# Altium footprint library PHOENIX_1725669.PcbLib: 1 footprints
Each footprint in its own frame and in the unit in brackets; x right, y up, seen from the top. Pads: shape width x height; smd on the part's side, far side on the other; paste and mask are expansions set on the pad; w line width, h text height; cw(c..) or ccw(c..) is an arc to the next point about the centre after c.
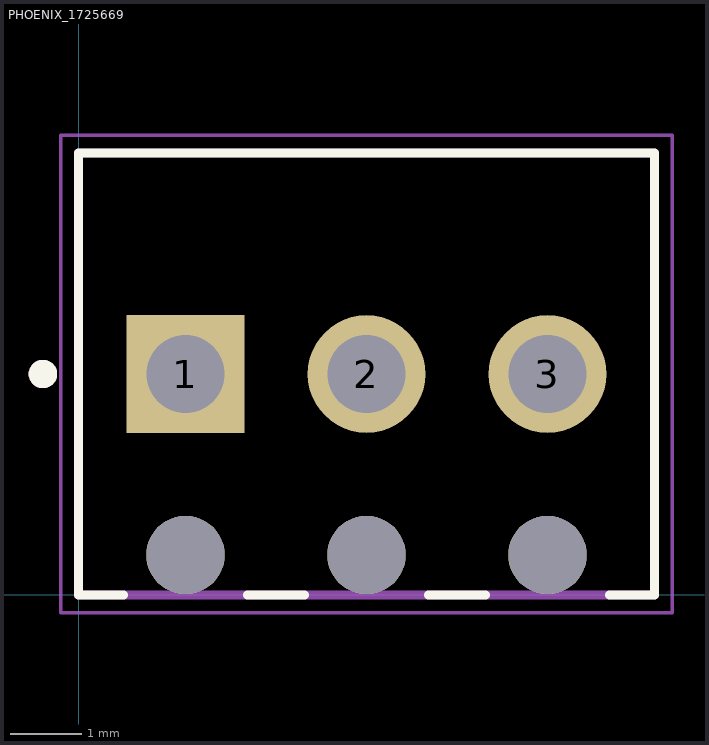
[diagram p0: the footprint, top view; thin cyan lines are the x and y axes]

## PHOENIX_1725669 [mm]
height 8.65
pads (6):
  rect 1.65x1.65 / inner round 1.65 / far side rect 1.65x1.65 hole 1.1: 1(1.5,3.1)
  round 1.65 hole 1.1: 2(4.04,3.1) 3(6.58,3.1)
  round 1.1 hole 1.1 unplated: ""(1.5,0.56) ""(4.04,0.56) ""(6.58,0.56)
Top Overlay:
  circle w0.2: c-0.5,3.1 r0.1
  lines w0.127: 0.63,0 0,0 0,6.2 8.08,6.2 8.08,0 7.45,0 ; 2.37,0 3.17,0 ; 4.91,0 5.71,0
Mechanical 13:
  circle w0.2: c-0.5,3.1 r0.1
  lines w0.127: 0,0 0,6.2 8.08,6.2 8.08,0 0,0
Mechanical 15:
  lines w0.05: -0.25,-0.25 -0.25,6.45 8.33,6.45 8.33,-0.25 -0.25,-0.25
3D body "1725669.stp": height 8.51, standoff -3.49, extent -0.04,0 8.1,6.2